# Altium integrated library DT15-6P.IntLib: 1 symbol
Pins are listed as number, name and electrical type; pins without a type are passive.

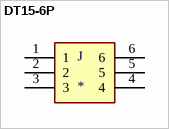
[diagram p0: symbol DT15-6P]

## DT15-6P
designator J
DT15 Series, 4.44mm Pitch 6 Way 2 Row Straight PCB Header, Solder Termination; MF: TE Connectivity; MP: DT15-6P; Availability: Unavailable; Price: None; Value: *; Package: None; SnapEDA_Link: https://www.snapeda.com/parts/DT15-6P/TE%20Connectivity%20Deutsch%20Connectors/view-part/2759108/?ref=snap
footprint TE_DT15-6P
pins: 1, 2, 3, 4, 5, 6